# Altium schematic symbol library Header_3piinOutput.SchLib: 1 symbol
Pins are listed as number, name and electrical type; pins without a type are passive.

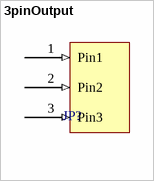
[diagram p0: symbol 3pinOutput]

## 3pinOutput
designator JP?
footprint 3PinPowerOutput
pins: 1 Pin1 (in), 2 Pin2 (in), 3 Pin3 (in)